# EAGLE library part RECEPTICAL-2X7-254MM (library daqcs)
.100” [2.54 mm] Contact Centers, Female Headers, Vertical/Right Angle TH/SMD
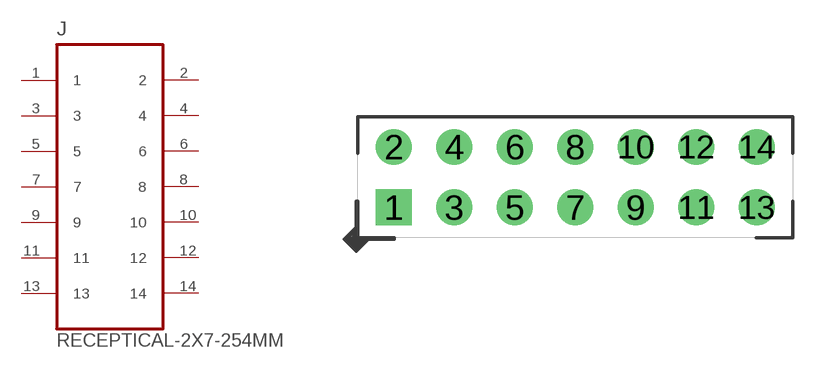
[diagram p8: symbol with the pads of RECEPTACLE-2X7-254MM; footprint RECEPTACLE-2X7-254MM]

Designator prefix J

## RECEPTICAL-2X7-254MM_2X7_254MM_TH (FINISH: GOLD; MANUFACTURER: Sullins; MANUFACTURER_PN: PPPC072LFBN-RC; MAX_CURRENT: 3.0A; MOUNT_ANGLE: VERTICAL; MOUNT_TYPE: TH; PITCH: 2.54mm; POSITIONS: 14; ROWS: 2; VALUE: RECEPTACLE-2x7-2.54MM; VENDOR: Digi-key; VENDOR_PN: S7110-ND)  [RECEPTACLE-2X7-254MM]
1  1
2  2
3  3
4  4
5  5
6  6
7  7
8  8
9  9
10  10
11  11
12  12
13  13
14  14

## Footprint RECEPTACLE-2X7-254MM (pad centres in mm)
drill 1 pad 1.5 square: 1 -7.62,-1.27
drill 1 pad 1.5: 2 -7.62,1.27; 3 -5.08,-1.27; 4 -5.08,1.27; 5 -2.54,-1.27; 6 -2.54,1.27; 7 0,-1.27; 8 0,1.27; 9 2.54,-1.27; 10 2.54,1.27; 11 5.08,-1.27; 12 5.08,1.27; 13 7.62,-1.27; 14 7.62,1.27